# Altium integrated library RF Inductors-KI_rev16a.intlib: 172 symbols (part 1 of 2)
Pins are listed as number, name and electrical type; pins without a type are passive.

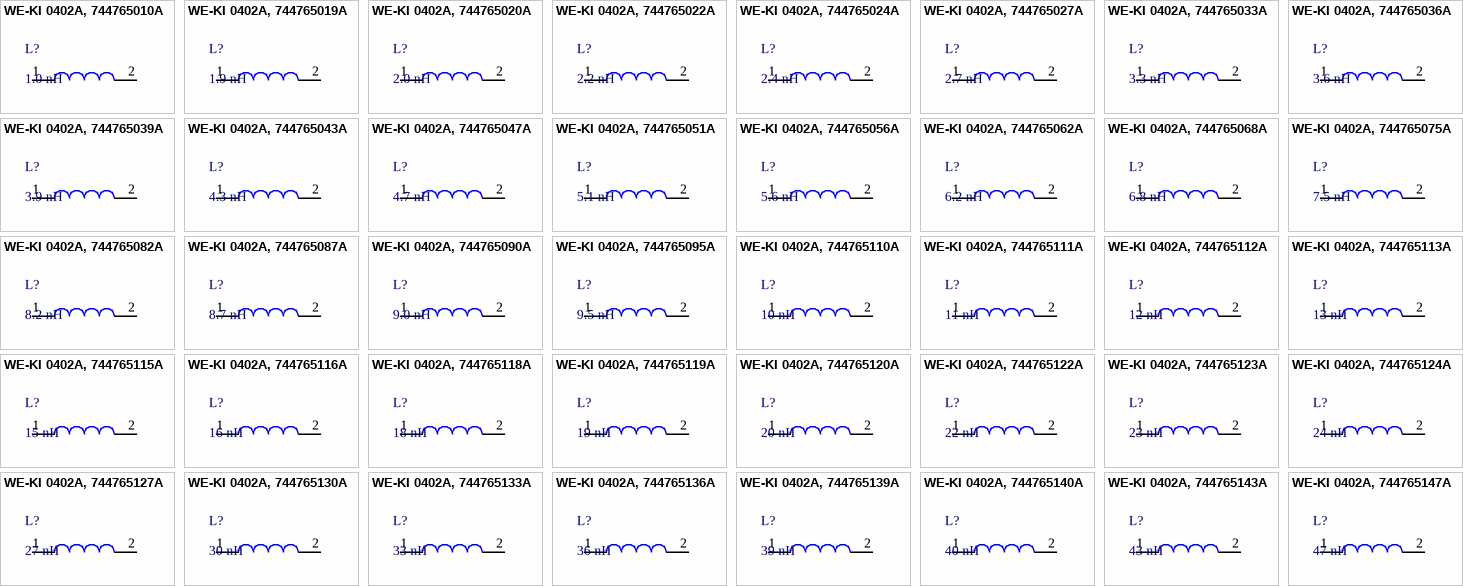
[diagram p0: symbols WE-KI 0402A, 744765010A to WE-KI 0402A, 744765147A]

## WE-KI 0402A, 744765010A
designator L?, comment 1.0 nH
WE-KI SMD Wire Wound Ceramic Inductor, Inductance=1.0 nH; partNo: 744765010A; Manufacturer: Wurth Elektronik; Inductance: 1.0 nH; ComponentLink1Description: Manufacturer; ComponentLink1URL: http://www.we-online.de; Created by: Baojun Chen; Created Date: Nov.2015; ComponentLink2Description: Datasheet; ComponentLink2URL: http://katalog.we-online.de/pbs/datasheet/744765010A.pdf
footprint WE-KI_0402A (WE-KI SMD Wire Wound Ceramic Inductor, 0402A)
pins: 1, 2

## WE-KI 0402A, 744765019A
designator L?, comment 1.9 nH
WE-KI SMD Wire Wound Ceramic Inductor, Inductance=1.9 nH; partNo: 744765019A; Manufacturer: Wurth Elektronik; Inductance: 1.9 nH; ComponentLink1Description: Manufacturer; ComponentLink1URL: http://www.we-online.de; Created by: Baojun Chen; Created Date: Nov.2015; ComponentLink2Description: Datasheet; ComponentLink2URL: http://katalog.we-online.de/pbs/datasheet/744765019A.pdf
footprint WE-KI_0402A
pins: 1, 2

## WE-KI 0402A, 744765020A
designator L?, comment 2.0 nH
WE-KI SMD Wire Wound Ceramic Inductor, Inductance=2.0 nH; partNo: 744765020A; Manufacturer: Wurth Elektronik; Inductance: 2.0 nH; ComponentLink1Description: Manufacturer; ComponentLink1URL: http://www.we-online.de; Created by: Baojun Chen; Created Date: Nov.2015; ComponentLink2Description: Datasheet; ComponentLink2URL: http://katalog.we-online.de/pbs/datasheet/744765020A.pdf
footprint WE-KI_0402A
pins: 1, 2

## WE-KI 0402A, 744765022A
designator L?, comment 2.2 nH
WE-KI SMD Wire Wound Ceramic Inductor, Inductance=2.2 nH; partNo: 744765022A; Manufacturer: Wurth Elektronik; Inductance: 2.2 nH; ComponentLink1Description: Manufacturer; ComponentLink1URL: http://www.we-online.de; Created by: Baojun Chen; Created Date: Nov.2015; ComponentLink2Description: Datasheet; ComponentLink2URL: http://katalog.we-online.de/pbs/datasheet/744765022A.pdf
footprint WE-KI_0402A
pins: 1, 2

## WE-KI 0402A, 744765024A
designator L?, comment 2.4 nH
WE-KI SMD Wire Wound Ceramic Inductor, Inductance=2.4 nH; partNo: 744765024A; Manufacturer: Wurth Elektronik; Inductance: 2.4 nH; ComponentLink1Description: Manufacturer; ComponentLink1URL: http://www.we-online.de; Created by: Baojun Chen; Created Date: Nov.2015; ComponentLink2Description: Datasheet; ComponentLink2URL: http://katalog.we-online.de/pbs/datasheet/744765024A.pdf
footprint WE-KI_0402A
pins: 1, 2

## WE-KI 0402A, 744765027A
designator L?, comment 2.7 nH
WE-KI SMD Wire Wound Ceramic Inductor, Inductance=2.7 nH; partNo: 744765027A; Manufacturer: Wurth Elektronik; Inductance: 2.7 nH; ComponentLink1Description: Manufacturer; ComponentLink1URL: http://www.we-online.de; Created by: Baojun Chen; Created Date: Nov.2015; ComponentLink2Description: Datasheet; ComponentLink2URL: http://katalog.we-online.de/pbs/datasheet/744765027A.pdf
footprint WE-KI_0402A
pins: 1, 2

## WE-KI 0402A, 744765033A
designator L?, comment 3.3 nH
WE-KI SMD Wire Wound Ceramic Inductor, Inductance=3.3 nH; partNo: 744765033A; Manufacturer: Wurth Elektronik; Inductance: 3.3 nH; ComponentLink1Description: Manufacturer; ComponentLink1URL: http://www.we-online.de; Created by: Baojun Chen; Created Date: Nov.2015; ComponentLink2Description: Datasheet; ComponentLink2URL: http://katalog.we-online.de/pbs/datasheet/744765033A.pdf
footprint WE-KI_0402A
pins: 1, 2

## WE-KI 0402A, 744765036A
designator L?, comment 3.6 nH
WE-KI SMD Wire Wound Ceramic Inductor, Inductance=3.6 nH; partNo: 744765036A; Manufacturer: Wurth Elektronik; Inductance: 3.6 nH; ComponentLink1Description: Manufacturer; ComponentLink1URL: http://www.we-online.de; Created by: Baojun Chen; Created Date: Nov.2015; ComponentLink2Description: Datasheet; ComponentLink2URL: http://katalog.we-online.de/pbs/datasheet/744765036A.pdf
footprint WE-KI_0402A
pins: 1, 2

## WE-KI 0402A, 744765039A
designator L?, comment 3.9 nH
WE-KI SMD Wire Wound Ceramic Inductor, Inductance=3.9 nH; partNo: 744765039A; Manufacturer: Wurth Elektronik; Inductance: 3.9 nH; ComponentLink1Description: Manufacturer; ComponentLink1URL: http://www.we-online.de; Created by: Baojun Chen; Created Date: Nov.2015; ComponentLink2Description: Datasheet; ComponentLink2URL: http://katalog.we-online.de/pbs/datasheet/744765039A.pdf
footprint WE-KI_0402A
pins: 1, 2

## WE-KI 0402A, 744765043A
designator L?, comment 4.3 nH
WE-KI SMD Wire Wound Ceramic Inductor, Inductance=4.3 nH; partNo: 744765043A; Manufacturer: Wurth Elektronik; Inductance: 4.3 nH; ComponentLink1Description: Manufacturer; ComponentLink1URL: http://www.we-online.de; Created by: Baojun Chen; Created Date: Nov.2015; ComponentLink2Description: Datasheet; ComponentLink2URL: http://katalog.we-online.de/pbs/datasheet/744765043A.pdf
footprint WE-KI_0402A
pins: 1, 2

## WE-KI 0402A, 744765047A
designator L?, comment 4.7 nH
WE-KI SMD Wire Wound Ceramic Inductor, Inductance=4.7 nH; partNo: 744765047A; Manufacturer: Wurth Elektronik; Inductance: 4.7 nH; ComponentLink1Description: Manufacturer; ComponentLink1URL: http://www.we-online.de; Created by: Baojun Chen; Created Date: Nov.2015; ComponentLink2Description: Datasheet; ComponentLink2URL: http://katalog.we-online.de/pbs/datasheet/744765047A.pdf
footprint WE-KI_0402A
pins: 1, 2

## WE-KI 0402A, 744765051A
designator L?, comment 5.1 nH
WE-KI SMD Wire Wound Ceramic Inductor, Inductance=5.1 nH; partNo: 744765051A; Manufacturer: Wurth Elektronik; Inductance: 5.1 nH; ComponentLink1Description: Manufacturer; ComponentLink1URL: http://www.we-online.de; Created by: Baojun Chen; Created Date: Nov.2015; ComponentLink2Description: Datasheet; ComponentLink2URL: http://katalog.we-online.de/pbs/datasheet/744765051A.pdf
footprint WE-KI_0402A
pins: 1, 2

## WE-KI 0402A, 744765056A
designator L?, comment 5.6 nH
WE-KI SMD Wire Wound Ceramic Inductor, Inductance=5.6 nH; partNo: 744765056A; Manufacturer: Wurth Elektronik; Inductance: 5.6 nH; ComponentLink1Description: Manufacturer; ComponentLink1URL: http://www.we-online.de; Created by: Baojun Chen; Created Date: Nov.2015; ComponentLink2Description: Datasheet; ComponentLink2URL: http://katalog.we-online.de/pbs/datasheet/744765056A.pdf
footprint WE-KI_0402A
pins: 1, 2

## WE-KI 0402A, 744765062A
designator L?, comment 6.2 nH
WE-KI SMD Wire Wound Ceramic Inductor, Inductance=6.2 nH; partNo: 744765062A; Manufacturer: Wurth Elektronik; Inductance: 6.2 nH; ComponentLink1Description: Manufacturer; ComponentLink1URL: http://www.we-online.de; Created by: Baojun Chen; Created Date: Nov.2015; ComponentLink2Description: Datasheet; ComponentLink2URL: http://katalog.we-online.de/pbs/datasheet/744765062A.pdf
footprint WE-KI_0402A
pins: 1, 2

## WE-KI 0402A, 744765068A
designator L?, comment 6.8 nH
WE-KI SMD Wire Wound Ceramic Inductor, Inductance=6.8 nH; partNo: 744765068A; Manufacturer: Wurth Elektronik; Inductance: 6.8 nH; ComponentLink1Description: Manufacturer; ComponentLink1URL: http://www.we-online.de; Created by: Baojun Chen; Created Date: Nov.2015; ComponentLink2Description: Datasheet; ComponentLink2URL: http://katalog.we-online.de/pbs/datasheet/744765068A.pdf
footprint WE-KI_0402A
pins: 1, 2

## WE-KI 0402A, 744765075A
designator L?, comment 7.5 nH
WE-KI SMD Wire Wound Ceramic Inductor, Inductance=7.5 nH; partNo: 744765075A; Manufacturer: Wurth Elektronik; Inductance: 7.5 nH; ComponentLink1Description: Manufacturer; ComponentLink1URL: http://www.we-online.de; Created by: Baojun Chen; Created Date: Nov.2015; ComponentLink2Description: Datasheet; ComponentLink2URL: http://katalog.we-online.de/pbs/datasheet/744765075A.pdf
footprint WE-KI_0402A
pins: 1, 2

## WE-KI 0402A, 744765082A
designator L?, comment 8.2 nH
WE-KI SMD Wire Wound Ceramic Inductor, Inductance=8.2 nH; partNo: 744765082A; Manufacturer: Wurth Elektronik; Inductance: 8.2 nH; ComponentLink1Description: Manufacturer; ComponentLink1URL: http://www.we-online.de; Created by: Baojun Chen; Created Date: Nov.2015; ComponentLink2Description: Datasheet; ComponentLink2URL: http://katalog.we-online.de/pbs/datasheet/744765082A.pdf
footprint WE-KI_0402A
pins: 1, 2

## WE-KI 0402A, 744765087A
designator L?, comment 8.7 nH
WE-KI SMD Wire Wound Ceramic Inductor, Inductance=8.7 nH; partNo: 744765087A; Manufacturer: Wurth Elektronik; Inductance: 8.7 nH; ComponentLink1Description: Manufacturer; ComponentLink1URL: http://www.we-online.de; Created by: Baojun Chen; Created Date: Nov.2015; ComponentLink2Description: Datasheet; ComponentLink2URL: http://katalog.we-online.de/pbs/datasheet/744765087A.pdf
footprint WE-KI_0402A
pins: 1, 2

## WE-KI 0402A, 744765090A
designator L?, comment 9.0 nH
WE-KI SMD Wire Wound Ceramic Inductor, Inductance=9.0 nH; partNo: 744765090A; Manufacturer: Wurth Elektronik; Inductance: 9.0 nH; ComponentLink1Description: Manufacturer; ComponentLink1URL: http://www.we-online.de; Created by: Baojun Chen; Created Date: Nov.2015; ComponentLink2Description: Datasheet; ComponentLink2URL: http://katalog.we-online.de/pbs/datasheet/744765090A.pdf
footprint WE-KI_0402A
pins: 1, 2

## WE-KI 0402A, 744765095A
designator L?, comment 9.5 nH
WE-KI SMD Wire Wound Ceramic Inductor, Inductance=9.5 nH; partNo: 744765095A; Manufacturer: Wurth Elektronik; Inductance: 9.5 nH; ComponentLink1Description: Manufacturer; ComponentLink1URL: http://www.we-online.de; Created by: Baojun Chen; Created Date: Nov.2015; ComponentLink2Description: Datasheet; ComponentLink2URL: http://katalog.we-online.de/pbs/datasheet/744765095A.pdf
footprint WE-KI_0402A
pins: 1, 2

## WE-KI 0402A, 744765110A
designator L?, comment 10 nH
WE-KI SMD Wire Wound Ceramic Inductor, Inductance=10 nH; partNo: 744765110A; Manufacturer: Wurth Elektronik; Inductance: 10 nH; ComponentLink1Description: Manufacturer; ComponentLink1URL: http://www.we-online.de; Created by: Baojun Chen; Created Date: Nov.2015; ComponentLink2Description: Datasheet; ComponentLink2URL: http://katalog.we-online.de/pbs/datasheet/744765110A.pdf
footprint WE-KI_0402A
pins: 1, 2

## WE-KI 0402A, 744765111A
designator L?, comment 11 nH
WE-KI SMD Wire Wound Ceramic Inductor, Inductance=11 nH; partNo: 744765111A; Manufacturer: Wurth Elektronik; Inductance: 11 nH; ComponentLink1Description: Manufacturer; ComponentLink1URL: http://www.we-online.de; Created by: Baojun Chen; Created Date: Nov.2015; ComponentLink2Description: Datasheet; ComponentLink2URL: http://katalog.we-online.de/pbs/datasheet/744765111A.pdf
footprint WE-KI_0402A
pins: 1, 2

## WE-KI 0402A, 744765112A
designator L?, comment 12 nH
WE-KI SMD Wire Wound Ceramic Inductor, Inductance=12 nH; partNo: 744765112A; Manufacturer: Wurth Elektronik; Inductance: 12 nH; ComponentLink1Description: Manufacturer; ComponentLink1URL: http://www.we-online.de; Created by: Baojun Chen; Created Date: Nov.2015; ComponentLink2Description: Datasheet; ComponentLink2URL: http://katalog.we-online.de/pbs/datasheet/744765112A.pdf
footprint WE-KI_0402A
pins: 1, 2

## WE-KI 0402A, 744765113A
designator L?, comment 13 nH
WE-KI SMD Wire Wound Ceramic Inductor, Inductance=13 nH; partNo: 744765113A; Manufacturer: Wurth Elektronik; Inductance: 13 nH; ComponentLink1Description: Manufacturer; ComponentLink1URL: http://www.we-online.de; Created by: Baojun Chen; Created Date: Nov.2015; ComponentLink2Description: Datasheet; ComponentLink2URL: http://katalog.we-online.de/pbs/datasheet/744765113A.pdf
footprint WE-KI_0402A
pins: 1, 2

## WE-KI 0402A, 744765115A
designator L?, comment 15 nH
WE-KI SMD Wire Wound Ceramic Inductor, Inductance=15 nH; partNo: 744765115A; Manufacturer: Wurth Elektronik; Inductance: 15 nH; ComponentLink1Description: Manufacturer; ComponentLink1URL: http://www.we-online.de; Created by: Baojun Chen; Created Date: Nov.2015; ComponentLink2Description: Datasheet; ComponentLink2URL: http://katalog.we-online.de/pbs/datasheet/744765115A.pdf
footprint WE-KI_0402A
pins: 1, 2

## WE-KI 0402A, 744765116A
designator L?, comment 16 nH
WE-KI SMD Wire Wound Ceramic Inductor, Inductance=16 nH; partNo: 744765116A; Manufacturer: Wurth Elektronik; Inductance: 16 nH; ComponentLink1Description: Manufacturer; ComponentLink1URL: http://www.we-online.de; Created by: Baojun Chen; Created Date: Nov.2015; ComponentLink2Description: Datasheet; ComponentLink2URL: http://katalog.we-online.de/pbs/datasheet/744765116A.pdf
footprint WE-KI_0402A
pins: 1, 2

## WE-KI 0402A, 744765118A
designator L?, comment 18 nH
WE-KI SMD Wire Wound Ceramic Inductor, Inductance=18 nH; partNo: 744765118A; Manufacturer: Wurth Elektronik; Inductance: 18 nH; ComponentLink1Description: Manufacturer; ComponentLink1URL: http://www.we-online.de; Created by: Baojun Chen; Created Date: Nov.2015; ComponentLink2Description: Datasheet; ComponentLink2URL: http://katalog.we-online.de/pbs/datasheet/744765118A.pdf
footprint WE-KI_0402A
pins: 1, 2

## WE-KI 0402A, 744765119A
designator L?, comment 19 nH
WE-KI SMD Wire Wound Ceramic Inductor, Inductance=19 nH; partNo: 744765119A; Manufacturer: Wurth Elektronik; Inductance: 19 nH; ComponentLink1Description: Manufacturer; ComponentLink1URL: http://www.we-online.de; Created by: Baojun Chen; Created Date: Nov.2015; ComponentLink2Description: Datasheet; ComponentLink2URL: http://katalog.we-online.de/pbs/datasheet/744765119A.pdf
footprint WE-KI_0402A
pins: 1, 2

## WE-KI 0402A, 744765120A
designator L?, comment 20 nH
WE-KI SMD Wire Wound Ceramic Inductor, Inductance=20 nH; partNo: 744765120A; Manufacturer: Wurth Elektronik; Inductance: 20 nH; ComponentLink1Description: Manufacturer; ComponentLink1URL: http://www.we-online.de; Created by: Baojun Chen; Created Date: Nov.2015; ComponentLink2Description: Datasheet; ComponentLink2URL: http://katalog.we-online.de/pbs/datasheet/744765120A.pdf
footprint WE-KI_0402A
pins: 1, 2

## WE-KI 0402A, 744765122A
designator L?, comment 22 nH
WE-KI SMD Wire Wound Ceramic Inductor, Inductance=22 nH; partNo: 744765122A; Manufacturer: Wurth Elektronik; Inductance: 22 nH; ComponentLink1Description: Manufacturer; ComponentLink1URL: http://www.we-online.de; Created by: Baojun Chen; Created Date: Nov.2015; ComponentLink2Description: Datasheet; ComponentLink2URL: http://katalog.we-online.de/pbs/datasheet/744765122A.pdf
footprint WE-KI_0402A
pins: 1, 2

## WE-KI 0402A, 744765123A
designator L?, comment 23 nH
WE-KI SMD Wire Wound Ceramic Inductor, Inductance=23 nH; partNo: 744765123A; Manufacturer: Wurth Elektronik; Inductance: 23 nH; ComponentLink1Description: Manufacturer; ComponentLink1URL: http://www.we-online.de; Created by: Baojun Chen; Created Date: Nov.2015; ComponentLink2Description: Datasheet; ComponentLink2URL: http://katalog.we-online.de/pbs/datasheet/744765123A.pdf
footprint WE-KI_0402A
pins: 1, 2

## WE-KI 0402A, 744765124A
designator L?, comment 24 nH
WE-KI SMD Wire Wound Ceramic Inductor, Inductance=24 nH; partNo: 744765124A; Manufacturer: Wurth Elektronik; Inductance: 24 nH; ComponentLink1Description: Manufacturer; ComponentLink1URL: http://www.we-online.de; Created by: Baojun Chen; Created Date: Nov.2015; ComponentLink2Description: Datasheet; ComponentLink2URL: http://katalog.we-online.de/pbs/datasheet/744765124A.pdf
footprint WE-KI_0402A
pins: 1, 2

## WE-KI 0402A, 744765127A
designator L?, comment 27 nH
WE-KI SMD Wire Wound Ceramic Inductor, Inductance=27 nH; partNo: 744765127A; Manufacturer: Wurth Elektronik; Inductance: 27 nH; ComponentLink1Description: Manufacturer; ComponentLink1URL: http://www.we-online.de; Created by: Baojun Chen; Created Date: Nov.2015; ComponentLink2Description: Datasheet; ComponentLink2URL: http://katalog.we-online.de/pbs/datasheet/744765127A.pdf
footprint WE-KI_0402A
pins: 1, 2

## WE-KI 0402A, 744765130A
designator L?, comment 30 nH
WE-KI SMD Wire Wound Ceramic Inductor, Inductance=30 nH; partNo: 744765130A; Manufacturer: Wurth Elektronik; Inductance: 30 nH; ComponentLink1Description: Manufacturer; ComponentLink1URL: http://www.we-online.de; Created by: Baojun Chen; Created Date: Nov.2015; ComponentLink2Description: Datasheet; ComponentLink2URL: http://katalog.we-online.de/pbs/datasheet/744765130A.pdf
footprint WE-KI_0402A
pins: 1, 2

## WE-KI 0402A, 744765133A
designator L?, comment 33 nH
WE-KI SMD Wire Wound Ceramic Inductor, Inductance=33 nH; partNo: 744765133A; Manufacturer: Wurth Elektronik; Inductance: 33 nH; ComponentLink1Description: Manufacturer; ComponentLink1URL: http://www.we-online.de; Created by: Baojun Chen; Created Date: Nov.2015; ComponentLink2Description: Datasheet; ComponentLink2URL: http://katalog.we-online.de/pbs/datasheet/744765133A.pdf
footprint WE-KI_0402A
pins: 1, 2

## WE-KI 0402A, 744765136A
designator L?, comment 36 nH
WE-KI SMD Wire Wound Ceramic Inductor, Inductance=36 nH; partNo: 744765136A; Manufacturer: Wurth Elektronik; Inductance: 36 nH; ComponentLink1Description: Manufacturer; ComponentLink1URL: http://www.we-online.de; Created by: Baojun Chen; Created Date: Nov.2015; ComponentLink2Description: Datasheet; ComponentLink2URL: http://katalog.we-online.de/pbs/datasheet/744765136A.pdf
footprint WE-KI_0402A
pins: 1, 2

## WE-KI 0402A, 744765139A
designator L?, comment 39 nH
WE-KI SMD Wire Wound Ceramic Inductor, Inductance=39 nH; partNo: 744765139A; Manufacturer: Wurth Elektronik; Inductance: 39 nH; ComponentLink1Description: Manufacturer; ComponentLink1URL: http://www.we-online.de; Created by: Baojun Chen; Created Date: Nov.2015; ComponentLink2Description: Datasheet; ComponentLink2URL: http://katalog.we-online.de/pbs/datasheet/744765139A.pdf
footprint WE-KI_0402A
pins: 1, 2

## WE-KI 0402A, 744765140A
designator L?, comment 40 nH
WE-KI SMD Wire Wound Ceramic Inductor, Inductance=40 nH; partNo: 744765140A; Manufacturer: Wurth Elektronik; Inductance: 40 nH; ComponentLink1Description: Manufacturer; ComponentLink1URL: http://www.we-online.de; Created by: Baojun Chen; Created Date: Nov.2015; ComponentLink2Description: Datasheet; ComponentLink2URL: http://katalog.we-online.de/pbs/datasheet/744765140A.pdf
footprint WE-KI_0402A
pins: 1, 2

## WE-KI 0402A, 744765143A
designator L?, comment 43 nH
WE-KI SMD Wire Wound Ceramic Inductor, Inductance=43 nH; partNo: 744765143A; Manufacturer: Wurth Elektronik; Inductance: 43 nH; ComponentLink1Description: Manufacturer; ComponentLink1URL: http://www.we-online.de; Created by: Baojun Chen; Created Date: Nov.2015; ComponentLink2Description: Datasheet; ComponentLink2URL: http://katalog.we-online.de/pbs/datasheet/744765143A.pdf
footprint WE-KI_0402A
pins: 1, 2

## WE-KI 0402A, 744765147A
designator L?, comment 47 nH
WE-KI SMD Wire Wound Ceramic Inductor, Inductance=47 nH; partNo: 744765147A; Manufacturer: Wurth Elektronik; Inductance: 47 nH; ComponentLink1Description: Manufacturer; ComponentLink1URL: http://www.we-online.de; Created by: Baojun Chen; Created Date: Nov.2015; ComponentLink2Description: Datasheet; ComponentLink2URL: http://katalog.we-online.de/pbs/datasheet/744765147A.pdf
footprint WE-KI_0402A
pins: 1, 2

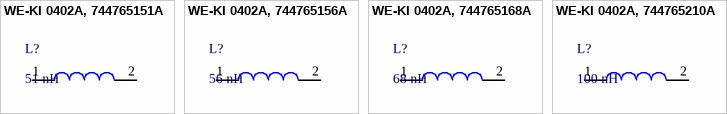
[diagram p1: symbols WE-KI 0402A, 744765151A to WE-KI 0402A, 744765210A]

## WE-KI 0402A, 744765151A
designator L?, comment 51 nH
WE-KI SMD Wire Wound Ceramic Inductor, Inductance=51 nH; partNo: 744765151A; Manufacturer: Wurth Elektronik; Inductance: 51 nH; ComponentLink1Description: Manufacturer; ComponentLink1URL: http://www.we-online.de; Created by: Baojun Chen; Created Date: Nov.2015; ComponentLink2Description: Datasheet; ComponentLink2URL: http://katalog.we-online.de/pbs/datasheet/744765151A.pdf
footprint WE-KI_0402A
pins: 1, 2

## WE-KI 0402A, 744765156A
designator L?, comment 56 nH
WE-KI SMD Wire Wound Ceramic Inductor, Inductance=56 nH; partNo: 744765156A; Manufacturer: Wurth Elektronik; Inductance: 56 nH; ComponentLink1Description: Manufacturer; ComponentLink1URL: http://www.we-online.de; Created by: Baojun Chen; Created Date: Nov.2015; ComponentLink2Description: Datasheet; ComponentLink2URL: http://katalog.we-online.de/pbs/datasheet/744765156A.pdf
footprint WE-KI_0402A
pins: 1, 2

## WE-KI 0402A, 744765168A
designator L?, comment 68 nH
WE-KI SMD Wire Wound Ceramic Inductor, Inductance=68 nH; partNo: 744765168A; Manufacturer: Wurth Elektronik; Inductance: 68 nH; ComponentLink1Description: Manufacturer; ComponentLink1URL: http://www.we-online.de; Created by: Baojun Chen; Created Date: Nov.2015; ComponentLink2Description: Datasheet; ComponentLink2URL: http://katalog.we-online.de/pbs/datasheet/744765168A.pdf
footprint WE-KI_0402A
pins: 1, 2

## WE-KI 0402A, 744765210A
designator L?, comment 100 nH
WE-KI SMD Wire Wound Ceramic Inductor, Inductance=100 nH; partNo: 744765210A; Manufacturer: Wurth Elektronik; Inductance: 100 nH; ComponentLink1Description: Manufacturer; ComponentLink1URL: http://www.we-online.de; Created by: Baojun Chen; Created Date: Nov.2015; ComponentLink2Description: Datasheet; ComponentLink2URL: http://katalog.we-online.de/pbs/datasheet/744765210A.pdf
footprint WE-KI_0402A
pins: 1, 2


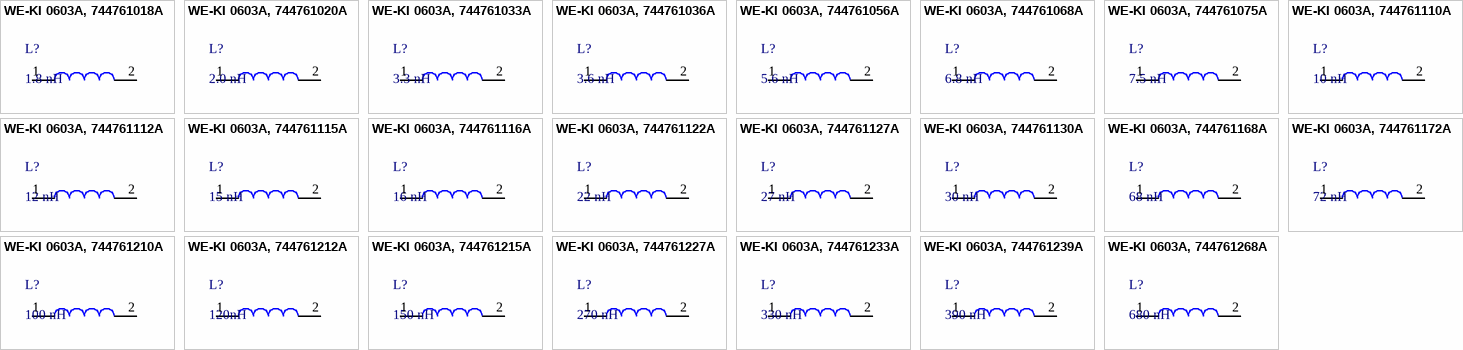
[diagram p2: symbols WE-KI 0603A, 744761018A to WE-KI 0603A, 744761268A]

## WE-KI 0603A, 744761018A
designator L?, comment 1.8 nH
WE-KI SMD Wire Wound Ceramic Inductor, Inductance=1.8 nH; partNo: 744761018A; Manufacturer: Wurth Elektronik; Inductance: 1.8 nH; ComponentLink1Description: Manufacturer; ComponentLink1URL: http://www.we-online.de; Created by: Baojun Chen; Created Date: Nov.2015; ComponentLink2Description: Datasheet; ComponentLink2URL: http://katalog.we-online.de/pbs/datasheet/744761018A.pdf
footprint WE-KI_0603A
pins: 1, 2

## WE-KI 0603A, 744761020A
designator L?, comment 2.0 nH
WE-KI SMD Wire Wound Ceramic Inductor, Inductance=2.0 nH; partNo: 744761020A; Manufacturer: Wurth Elektronik; Inductance: 2.0 nH; ComponentLink1Description: Manufacturer; ComponentLink1URL: http://www.we-online.de; Created by: Baojun Chen; Created Date: Nov.2015; ComponentLink2Description: Datasheet; ComponentLink2URL: http://katalog.we-online.de/pbs/datasheet/744761020A.pdf
footprint WE-KI_0603A
pins: 1, 2

## WE-KI 0603A, 744761033A
designator L?, comment 3.3 nH
WE-KI SMD Wire Wound Ceramic Inductor, Inductance=3.3 nH; partNo: 744761033A; Manufacturer: Wurth Elektronik; Inductance: 3.3 nH; ComponentLink1Description: Manufacturer; ComponentLink1URL: http://www.we-online.de; Created by: Baojun Chen; Created Date: Nov.2015; ComponentLink2Description: Datasheet; ComponentLink2URL: http://katalog.we-online.de/pbs/datasheet/744761033A.pdf
footprint WE-KI_0603A
pins: 1, 2

## WE-KI 0603A, 744761036A
designator L?, comment 3.6 nH
WE-KI SMD Wire Wound Ceramic Inductor, Inductance=3.6 nH; partNo: 744761036A; Manufacturer: Wurth Elektronik; Inductance: 3.6 nH; ComponentLink1Description: Manufacturer; ComponentLink1URL: http://www.we-online.de; Created by: Baojun Chen; Created Date: Nov.2015; ComponentLink2Description: Datasheet; ComponentLink2URL: http://katalog.we-online.de/pbs/datasheet/744761036A.pdf
footprint WE-KI_0603A
pins: 1, 2

## WE-KI 0603A, 744761056A
designator L?, comment 5.6 nH
WE-KI SMD Wire Wound Ceramic Inductor, Inductance=5.6 nH; partNo: 744761056A; Manufacturer: Wurth Elektronik; Inductance: 5.6 nH; ComponentLink1Description: Manufacturer; ComponentLink1URL: http://www.we-online.de; Created by: Baojun Chen; Created Date: Jan.2016; ComponentLink2Description: Datasheet; ComponentLink2URL: http://katalog.we-online.de/pbs/datasheet/744761056A.pdf
footprint WE-KI_0603A
pins: 1, 2

## WE-KI 0603A, 744761068A
designator L?, comment 6.8 nH
WE-KI SMD Wire Wound Ceramic Inductor, Inductance=6.8 nH; partNo: 744761068A; Manufacturer: Wurth Elektronik; Inductance: 6.8 nH; ComponentLink1Description: Manufacturer; ComponentLink1URL: http://www.we-online.de; Created by: Baojun Chen; Created Date: Nov.2015; ComponentLink2Description: Datasheet; ComponentLink2URL: http://katalog.we-online.de/pbs/datasheet/744761068A.pdf
footprint WE-KI_0603A
pins: 1, 2

## WE-KI 0603A, 744761075A
designator L?, comment 7.5 nH
WE-KI SMD Wire Wound Ceramic Inductor, Inductance=7.5 nH; partNo: 744761075A; Manufacturer: Wurth Elektronik; Inductance: 7.5 nH; ComponentLink1Description: Manufacturer; ComponentLink1URL: http://www.we-online.de; Created by: Baojun Chen; Created Date: Jan.2016; ComponentLink2Description: Datasheet; ComponentLink2URL: http://katalog.we-online.de/pbs/datasheet/744761075A.pdf
footprint WE-KI_0603A
pins: 1, 2

## WE-KI 0603A, 744761110A
designator L?, comment 10 nH
WE-KI SMD Wire Wound Ceramic Inductor, Inductance=10 nH; partNo: 744761110A; Manufacturer: Wurth Elektronik; Inductance: 10 nH; ComponentLink1Description: Manufacturer; ComponentLink1URL: http://www.we-online.de; Created by: Baojun Chen; Created Date: Nov.2015; ComponentLink2Description: Datasheet; ComponentLink2URL: http://katalog.we-online.de/pbs/datasheet/744761110A.pdf
footprint WE-KI_0603A
pins: 1, 2

## WE-KI 0603A, 744761112A
designator L?, comment 12 nH
WE-KI SMD Wire Wound Ceramic Inductor, Inductance=12 nH; partNo: 744761112A; Manufacturer: Wurth Elektronik; Inductance: 12 nH; ComponentLink1Description: Manufacturer; ComponentLink1URL: http://www.we-online.de; Created by: Baojun Chen; Created Date: Jan.2016; ComponentLink2Description: Datasheet; ComponentLink2URL: http://katalog.we-online.de/pbs/datasheet/744761112A.pdf
footprint WE-KI_0603A
pins: 1, 2

## WE-KI 0603A, 744761115A
designator L?, comment 15 nH
WE-KI SMD Wire Wound Ceramic Inductor, Inductance=15 nH; partNo: 744761115A; Manufacturer: Wurth Elektronik; Inductance: 15 nH; ComponentLink1Description: Manufacturer; ComponentLink1URL: http://www.we-online.de; Created by: Baojun Chen; Created Date: Nov.2015; ComponentLink2Description: Datasheet; ComponentLink2URL: http://katalog.we-online.de/pbs/datasheet/744761115A.pdf
footprint WE-KI_0603A
pins: 1, 2

## WE-KI 0603A, 744761116A
designator L?, comment 16 nH
WE-KI SMD Wire Wound Ceramic Inductor, Inductance=16 nH; partNo: 744761116A; Manufacturer: Wurth Elektronik; Inductance: 16 nH; ComponentLink1Description: Manufacturer; ComponentLink1URL: http://www.we-online.de; Created by: Baojun Chen; Created Date: Nov.2015; ComponentLink2Description: Datasheet; ComponentLink2URL: http://katalog.we-online.de/pbs/datasheet/744761116A.pdf
footprint WE-KI_0603A
pins: 1, 2

## WE-KI 0603A, 744761122A
designator L?, comment 22 nH
WE-KI SMD Wire Wound Ceramic Inductor, Inductance=22 nH; partNo: 744761122A; Manufacturer: Wurth Elektronik; Inductance: 22 nH; ComponentLink1Description: Manufacturer; ComponentLink1URL: http://www.we-online.de; Created by: Baojun Chen; Created Date: Nov.2015; ComponentLink2Description: Datasheet; ComponentLink2URL: http://katalog.we-online.de/pbs/datasheet/744761122A.pdf
footprint WE-KI_0603A
pins: 1, 2

## WE-KI 0603A, 744761127A
designator L?, comment 27 nH
WE-KI SMD Wire Wound Ceramic Inductor, Inductance=27 nH; partNo: 744761127A; Manufacturer: Wurth Elektronik; Inductance: 27 nH; ComponentLink1Description: Manufacturer; ComponentLink1URL: http://www.we-online.de; Created by: Baojun Chen; Created Date: Nov.2015; ComponentLink2Description: Datasheet; ComponentLink2URL: http://katalog.we-online.de/pbs/datasheet/744761127A.pdf
footprint WE-KI_0603A
pins: 1, 2

## WE-KI 0603A, 744761130A
designator L?, comment 30 nH
WE-KI SMD Wire Wound Ceramic Inductor, Inductance=30 nH; partNo: 744761130A; Manufacturer: Wurth Elektronik; Inductance: 30 nH; ComponentLink1Description: Manufacturer; ComponentLink1URL: http://www.we-online.de; Created by: Baojun Chen; Created Date: Nov.2015; ComponentLink2Description: Datasheet; ComponentLink2URL: http://katalog.we-online.de/pbs/datasheet/744761130A.pdf
footprint WE-KI_0603A
pins: 1, 2

## WE-KI 0603A, 744761168A
designator L?, comment 68 nH
WE-KI SMD Wire Wound Ceramic Inductor, Inductance=68 nH; partNo: 744761168A; Manufacturer: Wurth Elektronik; Inductance: 68 nH; ComponentLink1Description: Manufacturer; ComponentLink1URL: http://www.we-online.de; Created by: Baojun Chen; Created Date: Jan.2016; ComponentLink2Description: Datasheet; ComponentLink2URL: http://katalog.we-online.de/pbs/datasheet/744761168A.pdf
footprint WE-KI_0603A
pins: 1, 2

## WE-KI 0603A, 744761172A
designator L?, comment 72 nH
WE-KI SMD Wire Wound Ceramic Inductor, Inductance=72 nH; partNo: 744761172A; Manufacturer: Wurth Elektronik; Inductance: 72 nH; ComponentLink1Description: Manufacturer; ComponentLink1URL: http://www.we-online.de; Created by: Baojun Chen; Created Date: Nov.2015; ComponentLink2Description: Datasheet; ComponentLink2URL: http://katalog.we-online.de/pbs/datasheet/744761172A.pdf
footprint WE-KI_0603A
pins: 1, 2

## WE-KI 0603A, 744761210A
designator L?, comment 100 nH
WE-KI SMD Wire Wound Ceramic Inductor, Inductance=100 nH; partNo: 744761210A; Manufacturer: Wurth Elektronik; Inductance: 100 nH; ComponentLink1Description: Manufacturer; ComponentLink1URL: http://www.we-online.de; Created by: Baojun Chen; Created Date: Nov.2015; ComponentLink2Description: Datasheet; ComponentLink2URL: http://katalog.we-online.de/pbs/datasheet/744761210A.pdf
footprint WE-KI_0603A
pins: 1, 2

## WE-KI 0603A, 744761212A
designator L?, comment 120nH
WE-KI SMD Wire Wound Ceramic Inductor, Inductance=120nH; partNo: 744761212A; Manufacturer: Wurth Elektronik; Inductance: 120nH; ComponentLink1Description: Manufacturer; ComponentLink1URL: http://www.we-online.de; Created by: Baojun Chen; Created Date: Jan.2016; ComponentLink2Description: Datasheet; ComponentLink2URL: http://katalog.we-online.de/pbs/datasheet/744761212A.pdf
footprint WE-KI_0603A
pins: 1, 2

## WE-KI 0603A, 744761215A
designator L?, comment 150 nH
WE-KI SMD Wire Wound Ceramic Inductor, Inductance=150 nH; partNo: 744761215A; Manufacturer: Wurth Elektronik; Inductance: 150 nH; ComponentLink1Description: Manufacturer; ComponentLink1URL: http://www.we-online.de; Created by: Baojun Chen; Created Date: Jan.2016; ComponentLink2Description: Datasheet; ComponentLink2URL: http://katalog.we-online.de/pbs/datasheet/744761215A.pdf
footprint WE-KI_0603A
pins: 1, 2

## WE-KI 0603A, 744761227A
designator L?, comment 270 nH
WE-KI SMD Wire Wound Ceramic Inductor, Inductance=270 nH; partNo: 744761227A; Manufacturer: Wurth Elektronik; Inductance: 270 nH; ComponentLink1Description: Manufacturer; ComponentLink1URL: http://www.we-online.de; Created by: Baojun Chen; Created Date: Jan.2016; ComponentLink2Description: Datasheet; ComponentLink2URL: http://katalog.we-online.de/pbs/datasheet/744761227A.pdf
footprint WE-KI_0603A
pins: 1, 2

## WE-KI 0603A, 744761233A
designator L?, comment 330 nH
WE-KI SMD Wire Wound Ceramic Inductor, Inductance=330 nH; partNo: 744761233A; Manufacturer: Wurth Elektronik; Inductance: 330 nH; ComponentLink1Description: Manufacturer; ComponentLink1URL: http://www.we-online.de; Created by: Baojun Chen; Created Date: Nov.2015; ComponentLink2Description: Datasheet; ComponentLink2URL: http://katalog.we-online.de/pbs/datasheet/744761233A.pdf
footprint WE-KI_0603A
pins: 1, 2

## WE-KI 0603A, 744761239A
designator L?, comment 390 nH
WE-KI SMD Wire Wound Ceramic Inductor, Inductance=390 nH; partNo: 744761239A; Manufacturer: Wurth Elektronik; Inductance: 390 nH; ComponentLink1Description: Manufacturer; ComponentLink1URL: http://www.we-online.de; Created by: Baojun Chen; Created Date: Nov.2015; ComponentLink2Description: Datasheet; ComponentLink2URL: http://katalog.we-online.de/pbs/datasheet/744761239A.pdf
footprint WE-KI_0603A
pins: 1, 2

## WE-KI 0603A, 744761268A
designator L?, comment 680 nH
WE-KI SMD Wire Wound Ceramic Inductor, Inductance=680 nH; partNo: 744761268A; Manufacturer: Wurth Elektronik; Inductance: 680 nH; ComponentLink1Description: Manufacturer; ComponentLink1URL: http://www.we-online.de; Created by: Baojun Chen; Created Date: Jan.2016; ComponentLink2Description: Datasheet; ComponentLink2URL: http://katalog.we-online.de/pbs/datasheet/744761268A.pdf
footprint WE-KI_0603A
pins: 1, 2


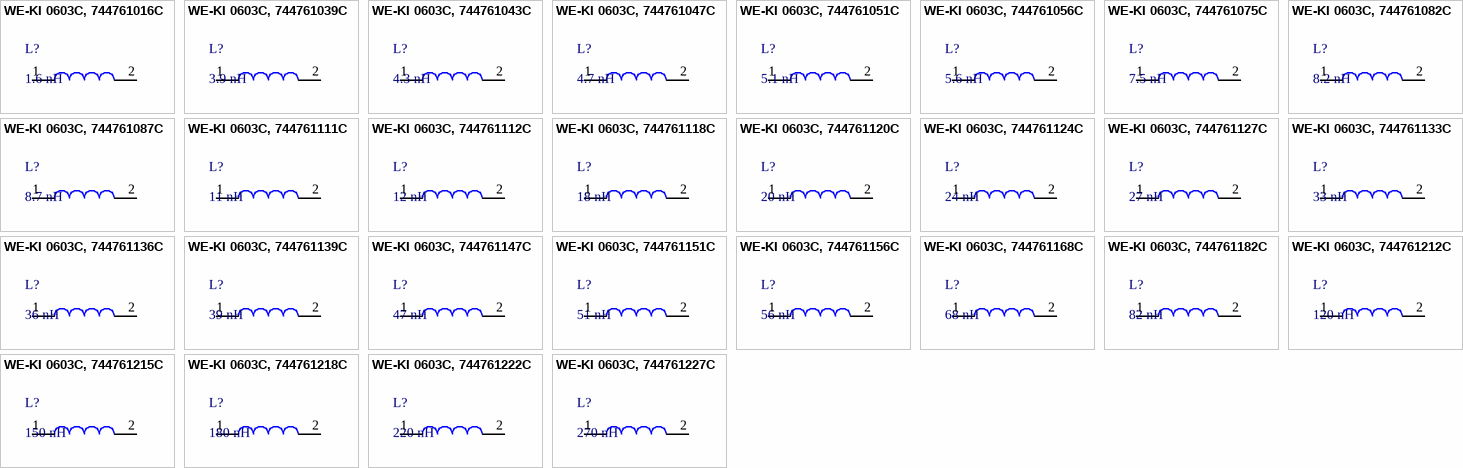
[diagram p3: symbols WE-KI 0603C, 744761016C to WE-KI 0603C, 744761227C]

## WE-KI 0603C, 744761016C
designator L?, comment 1.6 nH
WE-KI SMD Wire Wound Ceramic Inductor, Inductance=1.6 nH; partNo: 744761016C; Manufacturer: Wurth Elektronik; Inductance: 1.6 nH; ComponentLink1Description: Manufacturer; ComponentLink1URL: http://www.we-online.de; Created by: Baojun Chen; Created Date: Nov.2015; ComponentLink2Description: Datasheet; ComponentLink2URL: http://katalog.we-online.de/pbs/datasheet/744761016C.pdf
footprint WE-KI_0603C
pins: 1, 2

## WE-KI 0603C, 744761039C
designator L?, comment 3.9 nH
WE-KI SMD Wire Wound Ceramic Inductor, Inductance=3.9 nH; partNo: 744761039C; Manufacturer: Wurth Elektronik; Inductance: 3.9 nH; ComponentLink1Description: Manufacturer; ComponentLink1URL: http://www.we-online.de; Created by: Baojun Chen; Created Date: Nov.2015; ComponentLink2Description: Datasheet; ComponentLink2URL: http://katalog.we-online.de/pbs/datasheet/744761039C.pdf
footprint WE-KI_0603C
pins: 1, 2

## WE-KI 0603C, 744761043C
designator L?, comment 4.3 nH
WE-KI SMD Wire Wound Ceramic Inductor, Inductance=4.3 nH; partNo: 744761043C; Manufacturer: Wurth Elektronik; Inductance: 4.3 nH; ComponentLink1Description: Manufacturer; ComponentLink1URL: http://www.we-online.de; Created by: Baojun Chen; Created Date: Nov.2015; ComponentLink2Description: Datasheet; ComponentLink2URL: http://katalog.we-online.de/pbs/datasheet/744761043C.pdf
footprint WE-KI_0603C
pins: 1, 2

## WE-KI 0603C, 744761047C
designator L?, comment 4.7 nH
WE-KI SMD Wire Wound Ceramic Inductor, Inductance=4.7 nH; partNo: 744761047C; Manufacturer: Wurth Elektronik; Inductance: 4.7 nH; ComponentLink1Description: Manufacturer; ComponentLink1URL: http://www.we-online.de; Created by: Baojun Chen; Created Date: Nov.2015; ComponentLink2Description: Datasheet; ComponentLink2URL: http://katalog.we-online.de/pbs/datasheet/744761047C.pdf
footprint WE-KI_0603C
pins: 1, 2

## WE-KI 0603C, 744761051C
designator L?, comment 5.1 nH
WE-KI SMD Wire Wound Ceramic Inductor, Inductance=5.1 nH; partNo: 744761051C; Manufacturer: Wurth Elektronik; Inductance: 5.1 nH; ComponentLink1Description: Manufacturer; ComponentLink1URL: http://www.we-online.de; Created by: Baojun Chen; Created Date: Nov.2015; ComponentLink2Description: Datasheet; ComponentLink2URL: http://katalog.we-online.de/pbs/datasheet/744761051C.pdf
footprint WE-KI_0603C
pins: 1, 2

## WE-KI 0603C, 744761056C
designator L?, comment 5.6 nH
WE-KI SMD Wire Wound Ceramic Inductor, Inductance=5.6 nH; partNo: 744761056C; Manufacturer: Wurth Elektronik; Inductance: 5.6 nH; ComponentLink1Description: Manufacturer; ComponentLink1URL: http://www.we-online.de; Created by: Baojun Chen; Created Date: Nov.2015; ComponentLink2Description: Datasheet; ComponentLink2URL: http://katalog.we-online.de/pbs/datasheet/744761056C.pdf
footprint WE-KI_0603C
pins: 1, 2

## WE-KI 0603C, 744761075C
designator L?, comment 7.5 nH
WE-KI SMD Wire Wound Ceramic Inductor, Inductance=7.5 nH; partNo: 744761075C; Manufacturer: Wurth Elektronik; Inductance: 7.5 nH; ComponentLink1Description: Manufacturer; ComponentLink1URL: http://www.we-online.de; Created by: Baojun Chen; Created Date: Nov.2015; ComponentLink2Description: Datasheet; ComponentLink2URL: http://katalog.we-online.de/pbs/datasheet/744761075C.pdf
footprint WE-KI_0603C
pins: 1, 2

## WE-KI 0603C, 744761082C
designator L?, comment 8.2 nH
WE-KI SMD Wire Wound Ceramic Inductor, Inductance=8.2 nH; partNo: 744761082C; Manufacturer: Wurth Elektronik; Inductance: 8.2 nH; ComponentLink1Description: Manufacturer; ComponentLink1URL: http://www.we-online.de; Created by: Baojun Chen; Created Date: Nov.2015; ComponentLink2Description: Datasheet; ComponentLink2URL: http://katalog.we-online.de/pbs/datasheet/744761082C.pdf
footprint WE-KI_0603C
pins: 1, 2

## WE-KI 0603C, 744761087C
designator L?, comment 8.7 nH
WE-KI SMD Wire Wound Ceramic Inductor, Inductance=8.7 nH; partNo: 744761087C; Manufacturer: Wurth Elektronik; Inductance: 8.7 nH; ComponentLink1Description: Manufacturer; ComponentLink1URL: http://www.we-online.de; Created by: Baojun Chen; Created Date: Nov.2015; ComponentLink2Description: Datasheet; ComponentLink2URL: http://katalog.we-online.de/pbs/datasheet/744761087C.pdf
footprint WE-KI_0603C
pins: 1, 2

## WE-KI 0603C, 744761111C
designator L?, comment 11 nH
WE-KI SMD Wire Wound Ceramic Inductor, Inductance=11 nH; partNo: 744761111C; Manufacturer: Wurth Elektronik; Inductance: 11 nH; ComponentLink1Description: Manufacturer; ComponentLink1URL: http://www.we-online.de; Created by: Baojun Chen; Created Date: Nov.2015; ComponentLink2Description: Datasheet; ComponentLink2URL: http://katalog.we-online.de/pbs/datasheet/744761111C.pdf
footprint WE-KI_0603C
pins: 1, 2

## WE-KI 0603C, 744761112C
designator L?, comment 12 nH
WE-KI SMD Wire Wound Ceramic Inductor, Inductance=12 nH; partNo: 744761112C; Manufacturer: Wurth Elektronik; Inductance: 12 nH; ComponentLink1Description: Manufacturer; ComponentLink1URL: http://www.we-online.de; Created by: Baojun Chen; Created Date: Nov.2015; ComponentLink2Description: Datasheet; ComponentLink2URL: http://katalog.we-online.de/pbs/datasheet/744761112C.pdf
footprint WE-KI_0603C
pins: 1, 2

## WE-KI 0603C, 744761118C
designator L?, comment 18 nH
WE-KI SMD Wire Wound Ceramic Inductor, Inductance=18 nH; partNo: 744761118C; Manufacturer: Wurth Elektronik; Inductance: 18 nH; ComponentLink1Description: Manufacturer; ComponentLink1URL: http://www.we-online.de; Created by: Baojun Chen; Created Date: Nov.2015; ComponentLink2Description: Datasheet; ComponentLink2URL: http://katalog.we-online.de/pbs/datasheet/744761118C.pdf
footprint WE-KI_0603C
pins: 1, 2

## WE-KI 0603C, 744761120C
designator L?, comment 20 nH
WE-KI SMD Wire Wound Ceramic Inductor, Inductance=20 nH; partNo: 744761120C; Manufacturer: Wurth Elektronik; Inductance: 20 nH; ComponentLink1Description: Manufacturer; ComponentLink1URL: http://www.we-online.de; Created by: Baojun Chen; Created Date: Nov.2015; ComponentLink2Description: Datasheet; ComponentLink2URL: http://katalog.we-online.de/pbs/datasheet/744761120C.pdf
footprint WE-KI_0603C
pins: 1, 2

## WE-KI 0603C, 744761124C
designator L?, comment 24 nH
WE-KI SMD Wire Wound Ceramic Inductor, Inductance=24 nH; partNo: 744761124C; Manufacturer: Wurth Elektronik; Inductance: 24 nH; ComponentLink1Description: Manufacturer; ComponentLink1URL: http://www.we-online.de; Created by: Baojun Chen; Created Date: Nov.2015; ComponentLink2Description: Datasheet; ComponentLink2URL: http://katalog.we-online.de/pbs/datasheet/744761124C.pdf
footprint WE-KI_0603C
pins: 1, 2

## WE-KI 0603C, 744761127C
designator L?, comment 27 nH
WE-KI SMD Wire Wound Ceramic Inductor, Inductance=27 nH; partNo: 744761127C; Manufacturer: Wurth Elektronik; Inductance: 27 nH; ComponentLink1Description: Manufacturer; ComponentLink1URL: http://www.we-online.de; Created by: Baojun Chen; Created Date: Nov.2015; ComponentLink2Description: Datasheet; ComponentLink2URL: http://katalog.we-online.de/pbs/datasheet/744761127C.pdf
footprint WE-KI_0603C
pins: 1, 2

## WE-KI 0603C, 744761133C
designator L?, comment 33 nH
WE-KI SMD Wire Wound Ceramic Inductor, Inductance=33 nH; partNo: 744761133C; Manufacturer: Wurth Elektronik; Inductance: 33 nH; ComponentLink1Description: Manufacturer; ComponentLink1URL: http://www.we-online.de; Created by: Baojun Chen; Created Date: Nov.2015; ComponentLink2Description: Datasheet; ComponentLink2URL: http://katalog.we-online.de/pbs/datasheet/744761133C.pdf
footprint WE-KI_0603C
pins: 1, 2

## WE-KI 0603C, 744761136C
designator L?, comment 36 nH
WE-KI SMD Wire Wound Ceramic Inductor, Inductance=36 nH; partNo: 744761136C; Manufacturer: Wurth Elektronik; Inductance: 36 nH; ComponentLink1Description: Manufacturer; ComponentLink1URL: http://www.we-online.de; Created by: Baojun Chen; Created Date: Nov.2015; ComponentLink2Description: Datasheet; ComponentLink2URL: http://katalog.we-online.de/pbs/datasheet/744761136C.pdf
footprint WE-KI_0603C
pins: 1, 2

## WE-KI 0603C, 744761139C
designator L?, comment 39 nH
WE-KI SMD Wire Wound Ceramic Inductor, Inductance=39 nH; partNo: 744761139C; Manufacturer: Wurth Elektronik; Inductance: 39 nH; ComponentLink1Description: Manufacturer; ComponentLink1URL: http://www.we-online.de; Created by: Baojun Chen; Created Date: Nov.2015; ComponentLink2Description: Datasheet; ComponentLink2URL: http://katalog.we-online.de/pbs/datasheet/744761139C.pdf
footprint WE-KI_0603C
pins: 1, 2

## WE-KI 0603C, 744761147C
designator L?, comment 47 nH
WE-KI SMD Wire Wound Ceramic Inductor, Inductance=47 nH; partNo: 744761147C; Manufacturer: Wurth Elektronik; Inductance: 47 nH; ComponentLink1Description: Manufacturer; ComponentLink1URL: http://www.we-online.de; Created by: Baojun Chen; Created Date: Nov.2015; ComponentLink2Description: Datasheet; ComponentLink2URL: http://katalog.we-online.de/pbs/datasheet/744761147C.pdf
footprint WE-KI_0603C
pins: 1, 2

## WE-KI 0603C, 744761151C
designator L?, comment 51 nH
WE-KI SMD Wire Wound Ceramic Inductor, Inductance=51 nH; partNo: 744761151C; Manufacturer: Wurth Elektronik; Inductance: 51 nH; ComponentLink1Description: Manufacturer; ComponentLink1URL: http://www.we-online.de; Created by: Baojun Chen; Created Date: Nov.2015; ComponentLink2Description: Datasheet; ComponentLink2URL: http://katalog.we-online.de/pbs/datasheet/744761151C.pdf
footprint WE-KI_0603C
pins: 1, 2

## WE-KI 0603C, 744761156C
designator L?, comment 56 nH
WE-KI SMD Wire Wound Ceramic Inductor, Inductance=56 nH; partNo: 744761156C; Manufacturer: Wurth Elektronik; Inductance: 56 nH; ComponentLink1Description: Manufacturer; ComponentLink1URL: http://www.we-online.de; Created by: Baojun Chen; Created Date: Nov.2015; ComponentLink2Description: Datasheet; ComponentLink2URL: http://katalog.we-online.de/pbs/datasheet/744761156C.pdf
footprint WE-KI_0603C
pins: 1, 2

## WE-KI 0603C, 744761168C
designator L?, comment 68 nH
WE-KI SMD Wire Wound Ceramic Inductor, Inductance=68 nH; partNo: 744761168C; Manufacturer: Wurth Elektronik; Inductance: 68 nH; ComponentLink1Description: Manufacturer; ComponentLink1URL: http://www.we-online.de; Created by: Baojun Chen; Created Date: Nov.2015; ComponentLink2Description: Datasheet; ComponentLink2URL: http://katalog.we-online.de/pbs/datasheet/744761168C.pdf
footprint WE-KI_0603C
pins: 1, 2

## WE-KI 0603C, 744761182C
designator L?, comment 82 nH
WE-KI SMD Wire Wound Ceramic Inductor, Inductance=82 nH; partNo: 744761182C; Manufacturer: Wurth Elektronik; Inductance: 82 nH; ComponentLink1Description: Manufacturer; ComponentLink1URL: http://www.we-online.de; Created by: Baojun Chen; Created Date: Nov.2015; ComponentLink2Description: Datasheet; ComponentLink2URL: http://katalog.we-online.de/pbs/datasheet/744761182C.pdf
footprint WE-KI_0603C
pins: 1, 2

## WE-KI 0603C, 744761212C
designator L?, comment 120 nH
WE-KI SMD Wire Wound Ceramic Inductor, Inductance=120 nH; partNo: 744761212C; Manufacturer: Wurth Elektronik; Inductance: 120 nH; ComponentLink1Description: Manufacturer; ComponentLink1URL: http://www.we-online.de; Created by: Baojun Chen; Created Date: Nov.2015; ComponentLink2Description: Datasheet; ComponentLink2URL: http://katalog.we-online.de/pbs/datasheet/744761212C.pdf
footprint WE-KI_0603C
pins: 1, 2

## WE-KI 0603C, 744761215C
designator L?, comment 150 nH
WE-KI SMD Wire Wound Ceramic Inductor, Inductance=150 nH; partNo: 744761215C; Manufacturer: Wurth Elektronik; Inductance: 150 nH; ComponentLink1Description: Manufacturer; ComponentLink1URL: http://www.we-online.de; Created by: Baojun Chen; Created Date: Nov.2015; ComponentLink2Description: Datasheet; ComponentLink2URL: http://katalog.we-online.de/pbs/datasheet/744761215C.pdf
footprint WE-KI_0603C
pins: 1, 2

## WE-KI 0603C, 744761218C
designator L?, comment 180 nH
WE-KI SMD Wire Wound Ceramic Inductor, Inductance=180 nH; partNo: 744761218C; Manufacturer: Wurth Elektronik; Inductance: 180 nH; ComponentLink1Description: Manufacturer; ComponentLink1URL: http://www.we-online.de; Created by: Baojun Chen; Created Date: Nov.2015; ComponentLink2Description: Datasheet; ComponentLink2URL: http://katalog.we-online.de/pbs/datasheet/744761218C.pdf
footprint WE-KI_0603C
pins: 1, 2

## WE-KI 0603C, 744761222C
designator L?, comment 220 nH
WE-KI SMD Wire Wound Ceramic Inductor, Inductance=220 nH; partNo: 744761222C; Manufacturer: Wurth Elektronik; Inductance: 220 nH; ComponentLink1Description: Manufacturer; ComponentLink1URL: http://www.we-online.de; Created by: Baojun Chen; Created Date: Nov.2015; ComponentLink2Description: Datasheet; ComponentLink2URL: http://katalog.we-online.de/pbs/datasheet/744761222C.pdf
footprint WE-KI_0603C
pins: 1, 2

## WE-KI 0603C, 744761227C
designator L?, comment 270 nH
WE-KI SMD Wire Wound Ceramic Inductor, Inductance=270 nH; partNo: 744761227C; Manufacturer: Wurth Elektronik; Inductance: 270 nH; ComponentLink1Description: Manufacturer; ComponentLink1URL: http://www.we-online.de; Created by: Baojun Chen; Created Date: Nov.2015; ComponentLink2Description: Datasheet; ComponentLink2URL: http://katalog.we-online.de/pbs/datasheet/744761227C.pdf
footprint WE-KI_0603C
pins: 1, 2


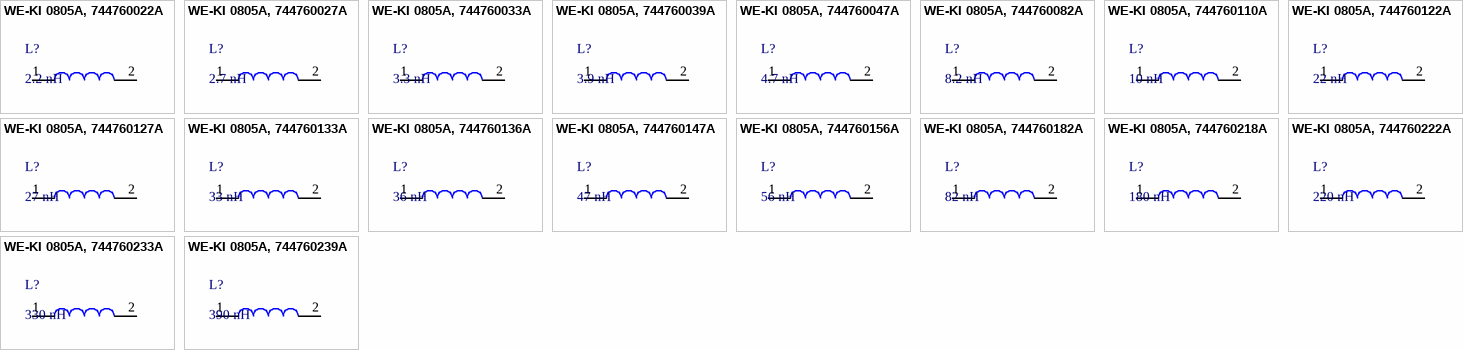
[diagram p4: symbols WE-KI 0805A, 744760022A to WE-KI 0805A, 744760239A]

## WE-KI 0805A, 744760022A
designator L?, comment 2.2 nH
WE-KI SMD Wire Wound Ceramic Inductor, Inductance=2.2 nH; partNo: 744760022A; Manufacturer: Wurth Elektronik; Inductance: 2.2 nH; ComponentLink1Description: Manufacturer; ComponentLink1URL: http://www.we-online.de; Created by: Baojun Chen; Created Date: Nov.2015; ComponentLink2Description: Datasheet; ComponentLink2URL: http://katalog.we-online.de/pbs/datasheet/744760022A.pdf
footprint WE-KI_0805A
pins: 1, 2

## WE-KI 0805A, 744760027A
designator L?, comment 2.7 nH
WE-KI SMD Wire Wound Ceramic Inductor, Inductance=2.7 nH; partNo: 744760027A; Manufacturer: Wurth Elektronik; Inductance: 2.7 nH; ComponentLink1Description: Manufacturer; ComponentLink1URL: http://www.we-online.de; Created by: Baojun Chen; Created Date: Jan.2016; ComponentLink2Description: Datasheet; ComponentLink2URL: http://katalog.we-online.de/pbs/datasheet/744760027A.pdf
footprint WE-KI_0805A
pins: 1, 2

## WE-KI 0805A, 744760033A
designator L?, comment 3.3 nH
WE-KI SMD Wire Wound Ceramic Inductor, Inductance=3.3 nH; partNo: 744760033A; Manufacturer: Wurth Elektronik; Inductance: 3.3 nH; ComponentLink1Description: Manufacturer; ComponentLink1URL: http://www.we-online.de; Created by: Baojun Chen; Created Date: Nov.2015; ComponentLink2Description: Datasheet; ComponentLink2URL: http://katalog.we-online.de/pbs/datasheet/744760033A.pdf
footprint WE-KI_0805A
pins: 1, 2

## WE-KI 0805A, 744760039A
designator L?, comment 3.9 nH
WE-KI SMD Wire Wound Ceramic Inductor, Inductance=3.9 nH; partNo: 744760039A; Manufacturer: Wurth Elektronik; Inductance: 3.9 nH; ComponentLink1Description: Manufacturer; ComponentLink1URL: http://www.we-online.de; Created by: Baojun Chen; Created Date: Nov.2015; ComponentLink2Description: Datasheet; ComponentLink2URL: http://katalog.we-online.de/pbs/datasheet/744760039A.pdf
footprint WE-KI_0805A
pins: 1, 2

## WE-KI 0805A, 744760047A
designator L?, comment 4.7 nH
WE-KI SMD Wire Wound Ceramic Inductor, Inductance=4.7 nH; partNo: 744760047A; Manufacturer: Wurth Elektronik; Inductance: 4.7 nH; ComponentLink1Description: Manufacturer; ComponentLink1URL: http://www.we-online.de; Created by: Baojun Chen; Created Date: Nov.2015; ComponentLink2Description: Datasheet; ComponentLink2URL: http://katalog.we-online.de/pbs/datasheet/744760047A.pdf
footprint WE-KI_0805A
pins: 1, 2

## WE-KI 0805A, 744760082A
designator L?, comment 8.2 nH
WE-KI SMD Wire Wound Ceramic Inductor, Inductance=8.2 nH; partNo: 744760082A; Manufacturer: Wurth Elektronik; Inductance: 8.2 nH; ComponentLink1Description: Manufacturer; ComponentLink1URL: http://www.we-online.de; Created by: Baojun Chen; Created Date: Nov.2015; ComponentLink2Description: Datasheet; ComponentLink2URL: http://katalog.we-online.de/pbs/datasheet/744760082A.pdf
footprint WE-KI_0805A
pins: 1, 2

## WE-KI 0805A, 744760110A
designator L?, comment 10 nH
WE-KI SMD Wire Wound Ceramic Inductor, Inductance=10 nH; partNo: 744760110A; Manufacturer: Wurth Elektronik; Inductance: 10 nH; ComponentLink1Description: Manufacturer; ComponentLink1URL: http://www.we-online.de; Created by: Baojun Chen; Created Date: Jan.2016; ComponentLink2Description: Datasheet; ComponentLink2URL: http://katalog.we-online.de/pbs/datasheet/744760110A.pdf
footprint WE-KI_0805A
pins: 1, 2

## WE-KI 0805A, 744760122A
designator L?, comment 22 nH
WE-KI SMD Wire Wound Ceramic Inductor, Inductance=22 nH; partNo: 744760122A; Manufacturer: Wurth Elektronik; Inductance: 22 nH; ComponentLink1Description: Manufacturer; ComponentLink1URL: http://www.we-online.de; Created by: Baojun Chen; Created Date: Jan.2016; ComponentLink2Description: Datasheet; ComponentLink2URL: http://katalog.we-online.de/pbs/datasheet/744760122A.pdf
footprint WE-KI_0805A
pins: 1, 2

## WE-KI 0805A, 744760127A
designator L?, comment 27 nH
WE-KI SMD Wire Wound Ceramic Inductor, Inductance=27 nH; partNo: 744760127A; Manufacturer: Wurth Elektronik; Inductance: 27 nH; ComponentLink1Description: Manufacturer; ComponentLink1URL: http://www.we-online.de; Created by: Baojun Chen; Created Date: Jan.2016; ComponentLink2Description: Datasheet; ComponentLink2URL: http://katalog.we-online.de/pbs/datasheet/744760127A.pdf
footprint WE-KI_0805A
pins: 1, 2

## WE-KI 0805A, 744760133A
designator L?, comment 33 nH
WE-KI SMD Wire Wound Ceramic Inductor, Inductance=33 nH; partNo: 744760133A; Manufacturer: Wurth Elektronik; Inductance: 33 nH; ComponentLink1Description: Manufacturer; ComponentLink1URL: http://www.we-online.de; Created by: Baojun Chen; Created Date: Jan.2016; ComponentLink2Description: Datasheet; ComponentLink2URL: http://katalog.we-online.de/pbs/datasheet/744760133A.pdf
footprint WE-KI_0805A
pins: 1, 2